# Altium footprint library parts.PcbLib: 2 footprints
Each footprint in its own frame and in the unit in brackets; x right, y up, seen from the top. Pads: shape width x height; smd on the part's side, far side on the other; paste and mask are expansions set on the pad; w line width, h text height; cw(c..) or ccw(c..) is an arc to the next point about the centre after c.
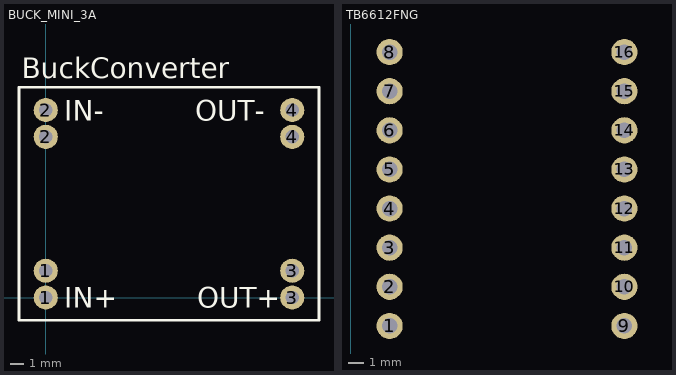
[diagram p0: the footprints below, top view; thin cyan lines are the x and y axes]

## BUCK_MINI_3A [mm]
pads (8):
  round 1.8 hole 1: 1(0,0) 1(0,2) 2(0,12) 2(0,14) 3(18.4,0) 3(18.4,2) 4(18.4,12) 4(18.4,14)
Top Overlay:
  lines w0.2: -2,-1.7 -2,15.7 20.4,15.7 20.4,-1.7 -2,-1.7
  text "BuckConverter" at -1.778,16.383 h1.52
  text "IN-" at 1.397,13.208 h1.52
  text "IN+" at 1.397,-0.762 h1.52
  text "OUT-" at 11.176,13.208 h1.52
  text "OUT+" at 11.303,-0.762 h1.52

## TB6612FNG [mm]
pads (16):
  round 1.7 hole 1: 1(2.54,2.54) 2(2.54,5.08) 3(2.54,7.62) 4(2.54,10.16) 5(2.54,12.7) 6(2.54,15.24) 7(2.54,17.78) 8(2.54,20.32) 9(17.78,2.54) 10(17.78,5.08) 11(17.78,7.62) 12(17.78,10.16) 13(17.78,12.7) 14(17.78,15.24) 15(17.78,17.78) 16(17.78,20.32)